# EAGLE library part HMC746LC3C (library NewSDR)
Hittite Fast Rise Time AND/NAND/OR/NOR
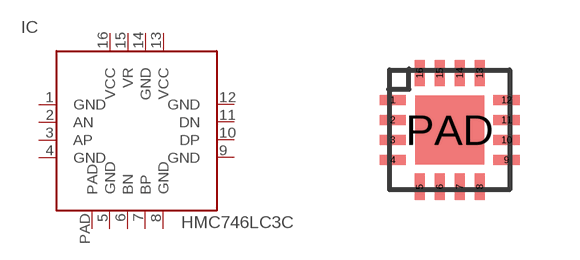
[diagram p140: symbol with the pads of LC3C; footprint LC3C]

Designator prefix IC

## HMC746LC3C  [LC3C]
1  GND  pwr
2  AN  in
3  AP  in
4  GND  pwr
5  GND  pwr
6  BN  in
7  BP  in
8  GND  pwr
9  GND  pwr
10  DP  out
11  DN  out
12  GND  pwr
13  VCC  pwr
14  GND  pwr
15  VR  pwr
16  VCC  pwr
PAD  PAD  pwr

## Footprint LC3C (pad centres in mm)
3 X 3 mm QFN Ceramic High Frequency SMT Package
smd 0.66 x 0.254: 1 -1.422,0.751; 2 -1.422,0.25; 3 -1.422,-0.25; 4 -1.422,-0.751; 9 1.422,-0.751; 10 1.422,-0.25; 11 1.422,0.25; 12 1.422,0.751
smd 0.254 x 0.66: 5 -0.751,-1.422; 6 -0.25,-1.422; 7 0.25,-1.422; 8 0.751,-1.422; 13 0.751,1.422; 14 0.25,1.422; 15 -0.25,1.422; 16 -0.751,1.422
smd 1.727 x 1.727: PAD 0,0